# Altium footprint library HEADER_F_1x4_2.54.PcbLib: 1 footprints
Each footprint in its own frame and in the unit in brackets; x right, y up, seen from the top. Pads: shape width x height; smd on the part's side, far side on the other; paste and mask are expansions set on the pad; w line width, h text height; cw(c..) or ccw(c..) is an arc to the next point about the centre after c.
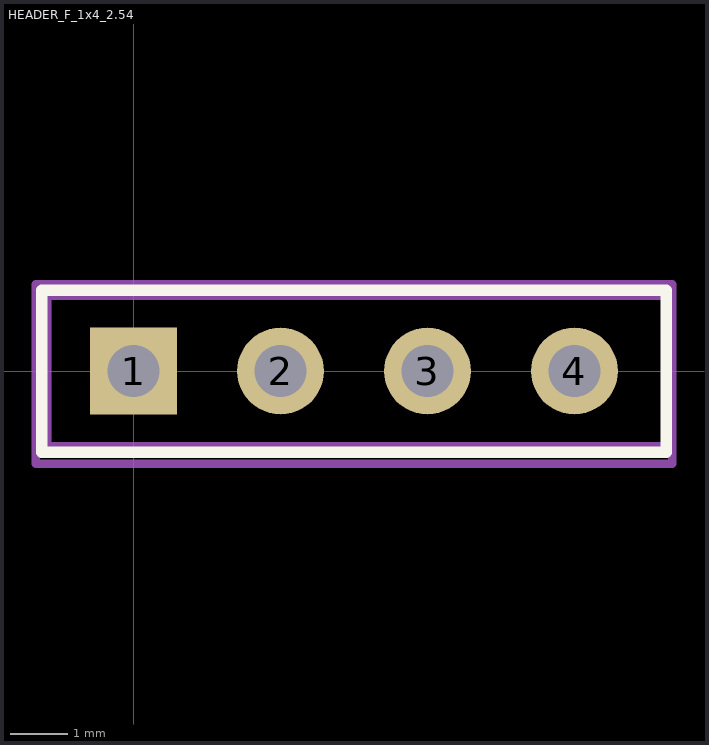
[diagram p0: the footprint, top view; thin cyan lines are the x and y axes]

## HEADER_F_1x4_2.54 [mm] "Connector; Header; 4 Position; Male"
pads (4):
  rect 1.5x1.5 hole 0.9: 1(0,0)
  round 1.5 hole 0.9: 2(2.54,0) 3(5.08,0) 4(7.62,0)
Top Overlay:
  lines w0.2: -1.59,-1.4 -1.59,1.4 9.21,1.4 9.21,-1.4 -1.59,-1.4
Top Assembly:
  lines w0.15: -1.49,-1.3 -1.49,1.3 9.21,1.3 9.21,-1.3 -1.49,-1.3
Top Courtyard:
  lines w0.15: -1.69,-1.6 9.31,-1.6 9.31,1.5 -1.69,1.5 -1.69,-1.6
3D body "zl262-4s_p2-54_l10-6_w2-54_h8-5.stp": height 8.5, standoff -3, extent -1.52,-1.27 9.14,1.27